# EAGLE library part 3P4T-ROTARY-1 (library spietz-library)
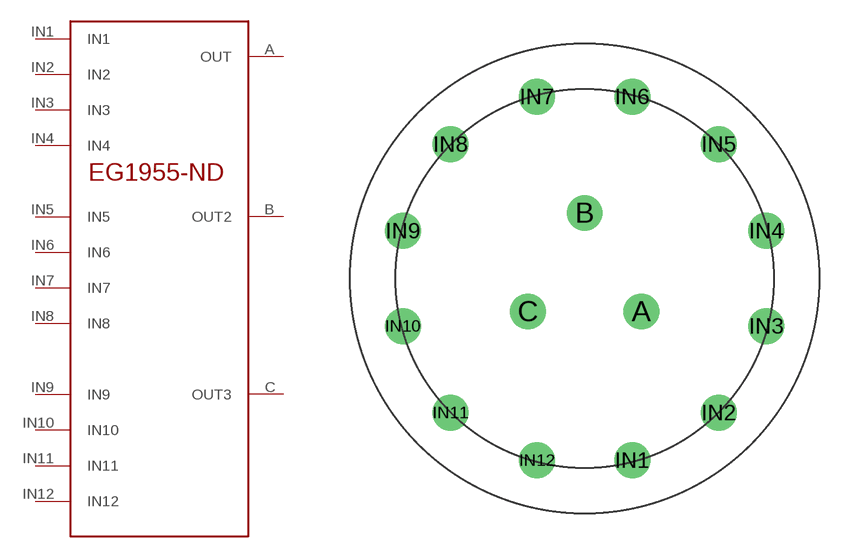
[diagram p6: symbol with the pads of 3P4T-ROTARY-1; footprint 3P4T-ROTARY-1]

Designator prefix -

## 3P4T-ROTARY-1  [3P4T-ROTARY-1]
A  OUT
B  OUT2
C  OUT3
IN1  IN1
IN2  IN2
IN3  IN3
IN4  IN4
IN5  IN5
IN6  IN6
IN7  IN7
IN8  IN8
IN9  IN9
IN10  IN10
IN11  IN11
IN12  IN12

## Footprint 3P4T-ROTARY-1 (pad centres in mm)
drill 1.4: A 3.327,-1.93; B 0,3.848; C -3.327,-1.93; IN1 2.794,-10.668; IN2 7.874,-7.874; IN3 10.668,-2.794; IN4 10.668,2.794; IN5 7.874,7.874; IN6 2.794,10.668; IN7 -2.794,10.668; IN8 -7.874,7.874; IN9 -10.668,2.794; IN10 -10.668,-2.794; IN11 -7.874,-7.874; IN12 -2.794,-10.668